# Altium schematic symbol library MMT_MCUs_ICs.SchLib: 70 symbols
Pins are listed as number, name and electrical type; pins without a type are passive.

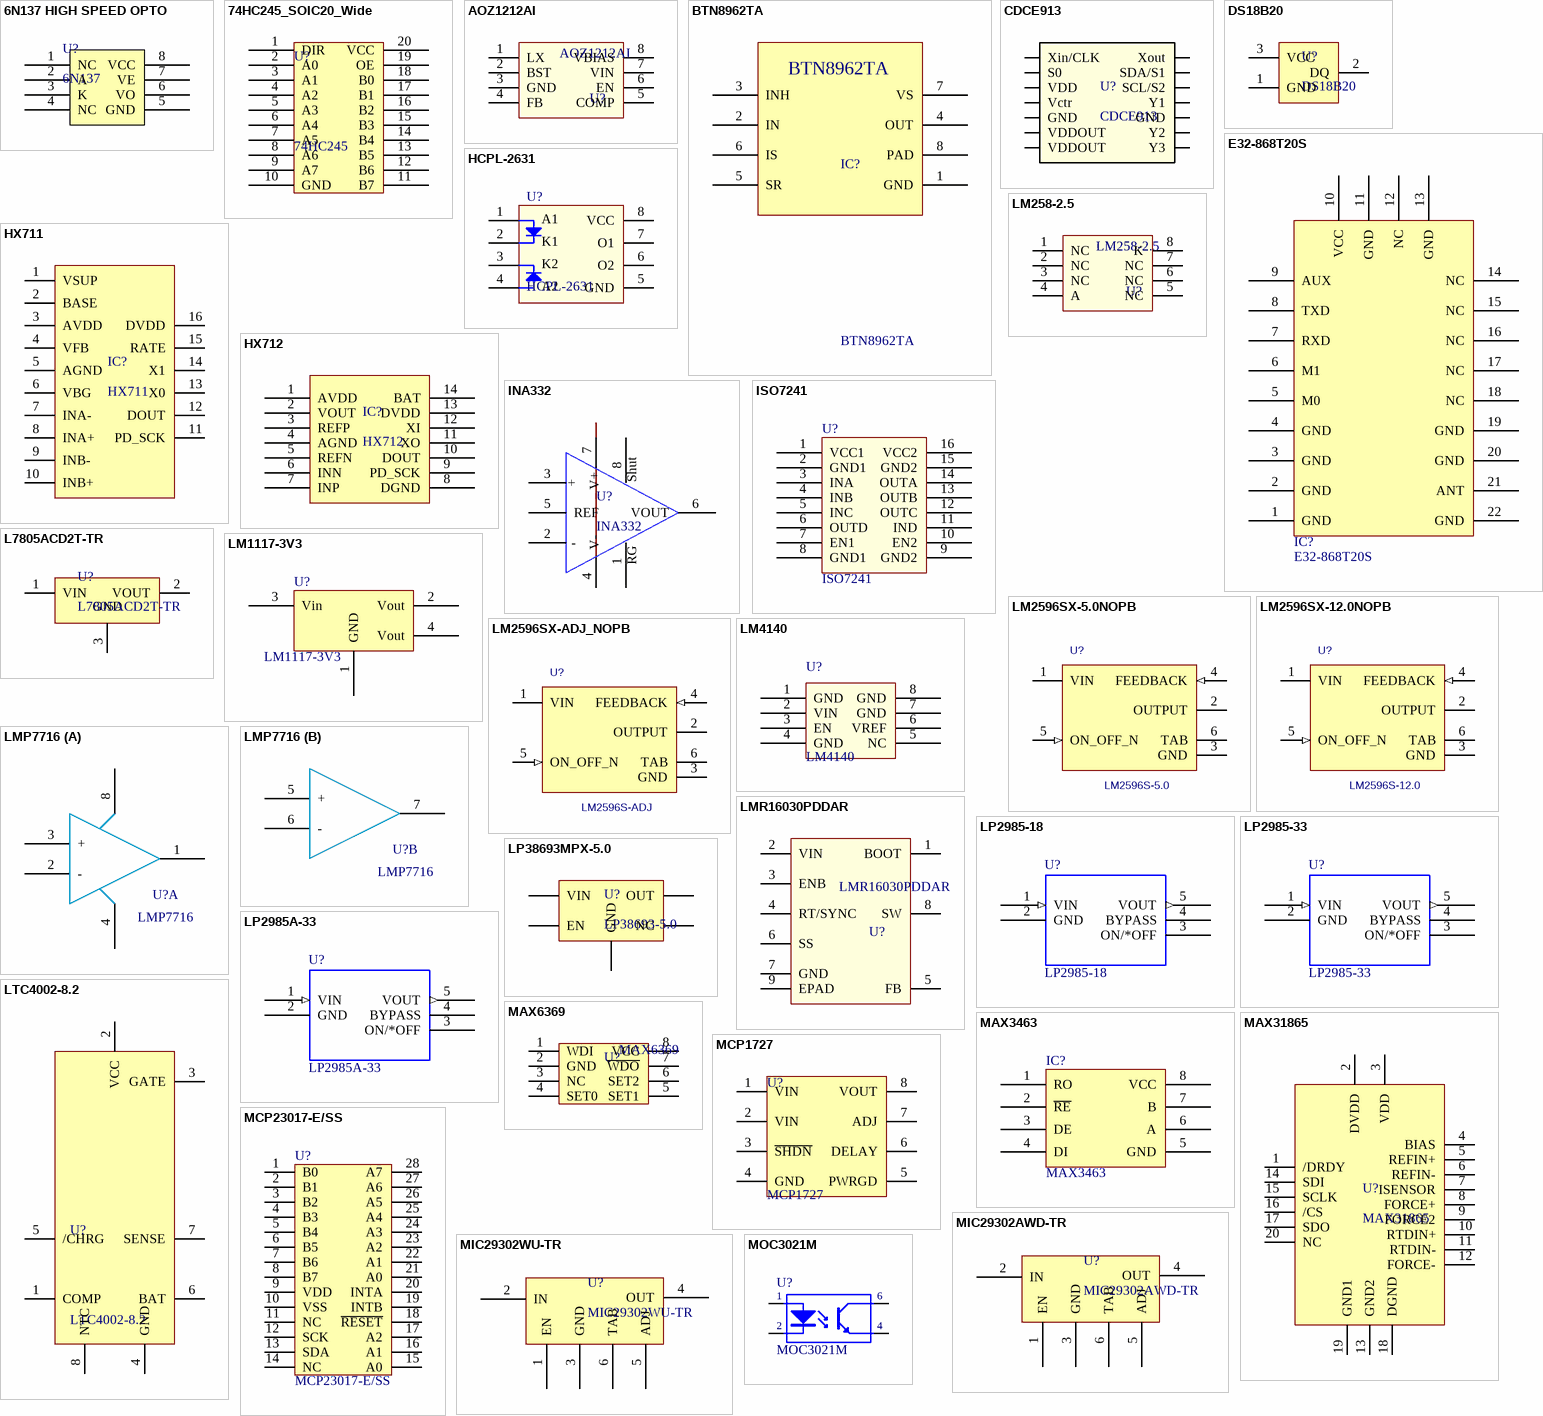
[diagram p0: symbols 6N137 HIGH SPEED OPTO to MOC3021M]

## 6N137 HIGH SPEED OPTO
designator U?, comment 6N137
Manufacturer: ON Semiconductor / Fairchild; Part Number: 6N137M; Ex Price: 0.95; VN Price: 13000; Ex Supplier: https://www.mouser.vn/ProductDetail/ON-Semiconductor-Fairchild/6N137M?qs=sGAEpiMZZMtd3yBnp8bAgA3T9QkA4GwUImSdzhoCmTs%3D; VN Supplier: https://thegioiic.com/products/6n137; Package: DIP-8
footprint DIP8/W0.3 (8 PIN, W 300mil, Pin to pin 100mil)
pins: 1 NC, 2 A, 3 K, 4 NC, 5 GND, 6 VO, 7 VE, 8 VCC

## 74HC245_SOIC20_Wide
designator U?, comment 74HC245
Octal bus transceiver; 3-state, Non-Inverting; Manufacturer: TI; Part Number: 74HC245D; Ex Price: 0.52; VN Price: 6000; Value: 74HC245 SOIC-20-wide; Voltage/Wattage: 5V; Ex Supplier: https://www.mouser.vn/ProductDetail/Texas-Instruments/SN74HC245NSR?qs=sGAEpiMZZMutXGli8Ay4kEK3ezPhJ2t9EnkYVGWCAYI%3D; VN Supplier: http://tme.vn/Product.aspx?id=1404#page=pro_info; Package: SOIC-20
footprint SO-20-wide (SOIC, 20-Leads, Body 12.8x7.5mm, Pitch 1.27mm, IPC Low Density)
pins: 1 DIR, 2 A0, 3 A1, 4 A2, 5 A3, 6 A4, 7 A5, 8 A6, 9 A7, 10 GND (power), 11 B7, 12 B6, 13 B5, 14 B4, 15 B3, 16 B2, 17 B1, 18 B0, 19 OE, 20 VCC (power)

## AOZ1212AI
designator U?
IC REG BUCK ADJUSTABLE 3A; Manufacturer: Alpha & Omega Semiconductor Inc.; Ex Price: 1.59; Ex Supplier: https://www.digikey.com/product-detail/en/alpha-omega-semiconductor-inc/AOZ1212AI/785-1159-1-ND/1856094; Part Number: AOZ1212AI; Package: SOIC-8
footprint SOIC-8
pins: 1 LX, 2 BST, 3 GND, 4 FB, 5 COMP, 6 EN, 7 VIN, 8 VBIAS

## BTN8962TA
designator IC?
Motor / Motion / Ignition Controllers & Drivers TRILITH IC / NOVALITH IC; Manufacturer: Infineon Technologies; Ex Price: 4.72; Ex Supplier: https://www.mouser.vn/ProductDetail/Infineon-Technologies/BTN8962TA?qs=sGAEpiMZZMtKB4wrjsn3leAuNy%252BI6F%252BmFnXInN1Divc%3D; Part Number: BTN8962TA; Package: TO-263-7; Value: BTN8962TA
footprint TO263-7-1
footprint TO263-7-1 - heatsink271
pins: 1 GND, 2 IN, 3 INH, 4 OUT, 5 SR, 6 IS, 7 VS, 8 PAD

## CDCE913
designator U?
Programmable 1-PLL VCXO Clock Synthesizer with 2.5-V or 3.3-V LVCMOS Outputs; Manufacturer: Texas Instruments; Part Number: CDCE913PWR; Voltage/Wattage: 1.8V; Ex Price: 3.73; Package: TSSOP-14; Ex Supplier: https://www.mouser.vn/ProductDetail/595-CDCE913PWR
footprint TSSOP14
pins: 1 Xin/CLK, 2 S0, 3 VDD, 4 Vctr, 5 GND, 6 VDDOUT, 7 VDDOUT, 8 Y3, 9 Y2, 10 GND, 11 Y1, 12 SCL/S2, 13 SDA/S1, 14 Xout

## DS18B20
designator U?
Board Mount Temperature Sensors Programmable Resolution 1-Wire Digital Thermometer; Manufacturer: Maxim Integrated; Part Number: DS18B20+; Ex Price: 3.92; VN Price: 23000; Voltage/Wattage: 3-5.5V; Package: TO-92-3; Ex Supplier: https://www.mouser.vn/ProductDetail/Maxim-Integrated/DS18B20%2b?qs=sGAEpiMZZMvbyeSUH4qH%2FLbikZ7SIep9; VN Supplier: https://www.thegioiic.com/products/ds18b20-cam-bien-nhiet-do-so
footprint TO-92
pins: 1 GND, 2 DQ, 3 VCC

## E32-868T20S
designator IC?
footprint E32-868T20S
pins: 1 GND, 2 GND, 3 GND, 4 GND, 5 M0, 6 M1, 7 RXD, 8 TXD, 9 AUX, 10 VCC, 11 GND, 12 NC, 13 GND, 14 NC, 15 NC, 16 NC, 17 NC, 18 NC, 19 GND, 20 GND, 21 ANT, 22 GND

## HCPL-2631
designator U?
High Speed Optocouplers 10MBd 2Ch 5mA; Manufacturer: Broadcom / Avago; Part Number: HCPL-2631-500E; Ex Price: 3.84; VN Price: 38000; Voltage/Wattage: 5V; Ex Supplier: https://www.mouser.vn/ProductDetail/Broadcom-Avago/HCPL-2631-500E?qs=sGAEpiMZZMtd3yBnp8bAgMhsn5Iee23BbWswC5E0b0U%3D; VN Supplier: http://tme.vn/Product.aspx?id=1471#page=pro_info; Package: PDIP-8 Gull Wing
footprint PDIP-8
pins: 1 A1, 2 K1, 3 K2, 4 A2, 5 GND, 6 O2, 7 O1, 8 VCC

## HX711
designator IC?
24-Bit Analog-to-Digital Converter (ADC) with Load-cell Power Supply  Switch and Battery Voltage Detection for Weigh Scales; Manufacturer: Avia Semicon; Voltage/Wattage: 2.6 - 5.5V; Ex Price: 0.6; Package: SOP-16; Ex Supplier: https://lcsc.com/product-detail/Analog-To-Digital-Converters-ADCs_HX711_C43656.html; Part Number: HX711; Value: HX711
footprint SOP16
pins: 1 VSUP, 2 BASE, 3 AVDD, 4 VFB, 5 AGND, 6 VBG, 7 INA-, 8 INA+, 9 INB-, 10 INB+, 11 PD_SCK, 12 DOUT, 13 X0, 14 X1, 15 RATE, 16 DVDD

## HX712
designator IC?
24-Bit Analog-to-Digital Converter (ADC) with Load-cell Power Supply  Switch and Battery Voltage Detection for Weigh Scales; Manufacturer: Avia; Voltage/Wattage: 2.6 - 5V; Ex Price: 0.21; Package: SOP-14L; Ex Supplier: https://www.alibaba.com/product-detail/Analog-To-Digital-Converters-ADCs-24_60839835507.html?spm=a2700.supplier-normal.35.7.16eb49feEBz5rt; Part Number: HX712; Value: HX712
footprint SOP-14L (SOIC, 14-Leads, Body 9.9x3.9mm, Pitch 1.27mm, IPC Medium Density)
pins: 1 AVDD, 2 VOUT, 3 REFP, 4 AGND, 5 REFN, 6 INN, 7 INP, 8 DGND, 9 PD_SCK, 10 DOUT, 11 XO, 12 XI, 13 DVDD, 14 BAT

## INA332
designator U?
Instrumentation Amplifiers Lo-Pwr Single Sply CMOS Low Cost; Manufacturer: Texas Instruments; Part Number: INA332AIDGKR; Ex Price: 1.56; Ex Supplier: https://www.mouser.vn/ProductDetail/Texas-Instruments/INA332AIDGKR?qs=sGAEpiMZZMsE1dKaA2ImUPh%2Fgv48%2Feoe2ddndcc%2F0S8%3D; Package: VSSOP-8
footprint VSSOP-8 (TSOP, 8-Leads, Body 3.00x3.00mm, Pitch 0.65mm, IPC Medium Density)
pins: 1 RG, 2 -, 3 +, 4 V-, 5 REF, 6 VOUT, 7 V+, 8 Shut

## ISO7241
designator U?
Digital Isolators Quad Ch 3/1 150Mbps Dig Iso; Manufacturer: Texas Instruments; Part Number: ISO7241MDWR; Ex Price: 5.89; Voltage/Wattage: 3.3 - 5V; Ex Supplier: https://www.mouser.vn/ProductDetail/595-ISO7241MDWR; Package: SOIC-16
footprint SOIC-16
pins: 1 VCC1, 2 GND1, 3 INA, 4 INB, 5 INC, 6 OUTD, 7 EN1, 8 GND1, 9 GND2, 10 EN2, 11 IND, 12 OUTC, 13 OUTB, 14 OUTA, 15 GND2, 16 VCC2

## L7805ACD2T-TR
designator U?
Linear Voltage Regulators 5.0V 1.0A Positive; Manufacturer: STMicroelectronics; Ex Price: 0.71; VN Price: 8000; Tolerance: 2%; Voltage/Wattage: 5V/1.5A; Ex Supplier: https://www.mouser.vn/ProductDetail/STMicroelectronics/L7805ACD2T-TR?qs=sGAEpiMZZMtUqDgmOWBjgMl0H2B5IAfAawidsDQ4OEE%3D; Package: D2PAK; Part Number: L7805ACD2T-TR; VN Supplier: https://thegioiic.com/products/l7805acd2t
footprint D2PAK
pins: 1 VIN, 2 VOUT, 3 GND

## LM258-2.5
designator U?
Voltage References 2.5V Micro Pwr; Manufacturer: Texas Instruments; Part Number: LM285DR-2-5; Ex Price: 0.6; Ex Supplier: https://www.mouser.vn/ProductDetail/Texas-Instruments/LM285DR-2-5?qs=sGAEpiMZZMuBck1X%252B7j9fILoURLouammCf3fcYYGxew=; Package: SOIC-8
footprint SOIC-8
pins: 1 NC, 2 NC, 3 NC, 4 A, 5 NC, 6 NC, 7 NC, 8 K

## LM1117-3V3
designator U?
IC REG LINEAR 3.3V 800MA SOT223; Manufacturer: Texas Instruments; Part Number: LM1117IMPX-3.3/NOPB; Ex Price: 1.1; VN Price: 11000; Tolerance: 1%; Voltage/Wattage: 3.3V/0.8A; Package: SOT-223-4; Ex Supplier: https://www.mouser.vn/ProductDetail/Texas-Instruments/LM1117IMPX-33-NOPB?qs=sGAEpiMZZMvu8NZDyZ4K0YxjC1jVOToG; VN Supplier: https://thegioiic.com/products/lm1117imp-3-3-nopb
footprint SOT223-4N
pins: 1 GND, 2 Vout, 3 Vin, 4 Vout

## LM2596SX-5.0NOPB
designator U?, comment LM2596S-5.0
Switching Voltage Regulators 150 KHZ 3A STEP-DOWN VLTG REG; Manufacturer: Texas Instruments; Part Number: LM2596SX-5.0/NOPB; Ex Price: 4.77; VN Price: 17000; Tolerance: 4%; Voltage/Wattage: 5V/3A; Package: TO-263-5; Ex Supplier: https://www.mouser.vn/ProductDetail/Texas-Instruments/LM2596SX-50-NOPB?qs=sGAEpiMZZMvu8NZDyZ4K0S81TZzfaUAZ; VN Supplier: http://www.tme.vn/Product.aspx?id=1435
footprint KTT0005B
pins: 1 VIN (power), 2 OUTPUT (power), 3 GND (power), 4 FEEDBACK (in), 5 ON_OFF_N (in), 6 TAB (power)

## LM2596SX-12.0NOPB
designator U?, comment LM2596S-12.0
Switching Voltage Regulators Pwr Cnvtr 150KHz 3A SD VTG Reg; Manufacturer: Texas Instruments; Part Number: LM2596SX-12/NOPB; Ex Price: 4.77; VN Price: 7000; Tolerance: 4%; Voltage/Wattage: 12V/3A; Package: TO-263-5; Ex Supplier: https://www.mouser.vn/ProductDetail/Texas-Instruments/LM2596SX-50-NOPB?qs=sGAEpiMZZMvu8NZDyZ4K0S81TZzfaUAZ; VN Supplier: https://thegioiic.com/products/lm2596s-12
footprint KTT0005B
pins: 1 VIN (power), 2 OUTPUT (power), 3 GND (power), 4 FEEDBACK (in), 5 ON_OFF_N (in), 6 TAB (power)

## LM2596SX-ADJ_NOPB
designator U?, comment LM2596S-ADJ
Switching Voltage Regulators 150 KHZ 3A STEP-DOWN VLTG REG; Manufacturer: Texas Instruments; Part Number: LM2596SX-ADJ/NOPB; Ex Price: 4.77; VN Price: 19000; Tolerance: 4%; Voltage/Wattage: 1.2 - 37V/3A; Package: TO-263-5; Ex Supplier: https://www.mouser.vn/ProductDetail/Texas-Instruments/LM2596SX-ADJ-NOPB?qs=sGAEpiMZZMtitjHzVIkrqaeIqJaO9bXJC5TTYIoeguU%3D; VN Supplier: https://thegioiic.com/products/lm2596sx-adj
footprint KTT0005B
pins: 1 VIN (power), 2 OUTPUT (power), 3 GND (power), 4 FEEDBACK (in), 5 ON_OFF_N (in), 6 TAB (power)

## LM4140
designator U?
LM4140 High Precision Low Noise Low Dropout Voltage Reference; Manufacturer: Texas Instruments; Part Number: LM4140ACM-1.0/NOPB; Ex Price: 4.73; Ex Supplier: https://www.mouser.vn/ProductDetail/926-LM4140ACM10NOPB; Package: SOIC-8
footprint SOIC-8
pins: 1 GND, 2 VIN, 3 EN, 4 GND, 5 NC, 6 VREF, 7 GND, 8 GND

## LMP7716
designator U?
Single and Dual Precision, 17 MHz, Low Noise, CMOS Input Amplifiers; Manufacturer: Texas Instruments; Part Number: LMP7716MM/NOPB; Ex Price: 2.48; Voltage/Wattage: 1.8-5.5V; Ex Supplier: https://www.mouser.vn/ProductDetail/926-LMP7716MM-NOPB; Package: VSSOP-8
footprint VSSOP-8 (TSOP, 8-Leads, Body 3.00x3.00mm, Pitch 0.65mm, IPC Medium Density)
part A pins: 1, 2 -, 3 +, 4, 8
part B pins: 5 +, 6 -, 7

## LMR16030PDDAR
designator U?
IC Switching Voltage Regulators; Manufacturer: Texas Instruments; Voltage/Wattage: 0.8-50V/3A; Ex Price: 3.51; Ex Supplier: https://www.mouser.vn/ProductDetail/Texas-Instruments/LMR16030PDDAR?qs=n%252BTO0c4TDSaKkVD0KJTfkA%3D%3D; Part Number: LMR16030PDDAR; Package: R-PDSO-G8
footprint R-PDSO-G8
pins: 1 BOOT, 2 VIN, 3 ENB, 4 RT/SYNC, 5 FB, 6 SS, 7 GND, 8 SW, 9 EPAD

## LP2985-18
designator U?
1.8V 0.15A Low-Noise LDO Regulator With Shutdown; Manufacturer: Texas Instruments; Part Number: LP2985-18DBVR; Voltage/Wattage: 16V/150mA; Tolerance: 1.5%; Ex Price: 0.56; Ex Supplier: https://www.mouser.vn/ProductDetail/Texas-Instruments/LP2985-18DBVR?qs=AsTZqt%2FmeqmqQIdfOTinGg==; Package: SOT-23-5
footprint SOT-23-5
pins: 1 VIN (in), 2 GND (power), 3 ON/*OFF, 4 BYPASS, 5 VOUT (out)

## LP2985-33
designator U?
3.3V 0.15A Low-Noise LDO Regulator With Shutdown; Manufacturer: Texas Instruments; Part Number: LP2985-33DBVR; VN Price: 6000; Value: Lp2985- 3.3V; Voltage/Wattage: 16V/150mA; Tolerance: 1.5%; Ex Price: 0.58; VN Supplier: http://www.tme.vn/Product.aspx?id=1633#page=pro_info; Ex Supplier: https://www.mouser.vn/ProductDetail/Texas-Instruments/LP2985-33DBVR?qs=sGAEpiMZZMsGz1a6aV8DcCOj5hh%2FNjhX4p6toGEueJ8%3D; Package: SOT-23-5
footprint SOT-23-5
pins: 1 VIN (in), 2 GND (power), 3 ON/*OFF, 4 BYPASS, 5 VOUT (out)

## LP2985A-33
designator U?
LDO Voltage Regulators 150-mA 1% Tolerance Low-Noise LDO; Manufacturer: Texas Instruments; Part Number: LP2985A-33DBVR; Value: Lp2985- 3.3V; Voltage/Wattage: 16V/150mA; Ex Price: 0.61; Ex Supplier: https://www.mouser.vn/ProductDetail/595-LP2985A-33DBVR; Package: SOT-23-5; Tolerance: 1%
footprint SOT-23-5
pins: 1 VIN (in), 2 GND (power), 3 ON/*OFF, 4 BYPASS, 5 VOUT (out)

## LP38693MPX-5.0
designator U?, comment LP38693-5.0
LDO Voltage Regulators 500mA Low Dropout CMOS Linear Regulators; Manufacturer: Texas Instruments; Part Number: LP38693MPX-5.0/NOPB; Ex Price: 1.45; Tolerance: 4%; Voltage/Wattage: 5V - 0.5A; Package: SOT-223-5; Ex Supplier: https://www.mouser.vn/ProductDetail/Texas-Instruments/LP38693MPX-50-NOPB?qs=sGAEpiMZZMsGz1a6aV8DcBojudwDyMGa%252Bn8pYw94fPI%3D
footprint SOT-223-5
pins: 1 EN, 2 NC, 3 OUT, 4 VIN, 5 GND

## LTC4002-8.2
designator U?
Battery Management 2A, 2 Cell Switching Mode Battery; Manufacturer: Analog Devices / Linear Technology; Part Number: LTC4002ES8-8.4#PBF; Ex Price: 3.85; Voltage/Wattage: 8.9 - 22V; Ex Supplier: https://www.mouser.vn/ProductDetail/Analog-Devices-Linear-Technology/LTC4002ES8-84PBF?qs=sGAEpiMZZMvi6wO7nhr1L98cwPUmAHS2xX52EE9LnZU%3D; Package: SO-8; Value: LTC4002-8.2
footprint SO-8 (8-Pin Small Outline Integrated Circuit 1.27 mm Pitch, IPC Medium Density)
pins: 1 COMP, 2 VCC, 3 GATE, 4 GND, 5 /CHRG, 6 BAT, 7 SENSE, 8 NTC

## MAX3463
designator IC?
24-Bit Analog-to-Digital Converter (ADC) with Load-cell Power Supply  Switch and Battery Voltage Detection for Weigh Scales; Part Number: MAX3463CSA+; Manufacturer: Maxim; Voltage/Wattage: 5V; Ex Price: 4.31; Package: SOIC-8; Ex Supplier: https://www.mouser.vn/ProductDetail/Maxim-Integrated/MAX3463CSA+?qs=sGAEpiMZZMuXae9YOZoWd9EBnNihOkMO3edVp8Jk1cE=; Value: MAX3463
footprint SOIC-8
pins: 1 RO, 2 ~{RE}, 3 DE, 4 DI, 5 GND, 6 A, 7 B, 8 VCC

## MAX6369
designator U?
Supervisory Circuits Pin - Selectable Watchdog Timers; Manufacturer: Maxim Integrated; Part Number: MAX6369KA+T; Ex Price: 3.24; Package: SOT-23-8; Ex Supplier: https://www.mouser.vn/ProductDetail/Maxim-Integrated/MAX6369KA%2bT?qs=sGAEpiMZZMunEhqKs81nFFSrWToUXdqMhTrIHig1CPI%3D
footprint SOT-23-8
pins: 1 WDI, 2 GND, 3 NC, 4 SET0, 5 SET1, 6 SET2, 7 ~{WDO}, 8 VCC

## MAX31865
designator U?
Data Acquisition ADCs/DACs - Specialized RTD to Digital Converter in SSOP; Manufacturer: Maxim Integrated; Part Number: MAX31865AAP+; Ex Price: 3.81; Voltage/Wattage: 3.3V; Package: SSOP-20; Ex Supplier: https://www.mouser.vn/ProductDetail/700-MAX31865AAP%2b
footprint SSOP-20
pins: 1 /DRDY, 2 DVDD, 3 VDD, 4 BIAS, 5 REFIN+, 6 REFIN-, 7 ISENSOR, 8 FORCE+, 9 FORCE2, 10 RTDIN+, 11 RTDIN-, 12 FORCE-, 13 GND2, 14 SDI, 15 SCLK, 16 /CS, 17 SDO, 18 DGND, 19 GND1, 20 NC

## MCP1727
designator U?
24-Bit Analog-to-Digital Converter (ADC) with Load-cell Power Supply  Switch and Battery V1.5A, Low Voltage, Low Quiescent Current LDO Regulatoroltage Detection for Weigh Scales; Part Number: MCP1727T-3302E/SN; Manufacturer: Microchip Technology; VN Price: 25000; Ex Price: 0.82; Package: SOIC-8; Ex Supplier: https://www.mouser.vn/ProductDetail/Microchip-Technology/MCP1727T-3302E-SN?qs=sGAEpiMZZMsGz1a6aV8DcM7PvAViIEQBgFEUKMZUcPI%3D; VN Supplier: http://www.tme.vn/Product.aspx?id=1254#page=pro_info
footprint SOIC-8
pins: 1 VIN, 2 VIN, 3 ~{SHDN}, 4 GND, 5 PWRGD, 6 DELAY, 7 ADJ, 8 VOUT

## MCP23017-E/SS
designator U?
IC I/O EXPANDER I2C 16B 28SSOP; Manufacturer: Microchip Technology; Ex Price: 1.26; VN Price: 25000; Part Number: MCP23017-E/SS; Ex Supplier: https://www.mouser.vn/ProductDetail/Microchip-Technology/MCP23017-E-SS?qs=sGAEpiMZZMuFG5L82Zqpsv%2Foit1hbM7Tp07FKqvBeEk%3D; VN Supplier: https://thegioiic.com/products/mcp23017-e-ss
footprint SSOP28
pins: 1 B0, 2 B1, 3 B2, 4 B3, 5 B4, 6 B5, 7 B6, 8 B7, 9 VDD, 10 VSS, 11 NC, 12 SCK, 13 SDA, 14 NC, 15 A0, 16 A1, 17 A2, 18 ~{RESET}, 19 INTB, 20 INTA, 21 A0, 22 A1, 23 A2, 24 A3, 25 A4, 26 A5, 27 A6, 28 A7

## MIC29302AWD-TR
designator U?
LDO Voltage Regulators 3A Fast-Response LDO; Manufacturer: Microchip Technology / Micrel; Ex Price: 0.44; VN Price: 10800; Tolerance: 1%; Voltage/Wattage: 16V/3A; Part Number: MIC29302AWD-TR; Package: TO-252-5; Ex Supplier: https://www.mouser.vn/ProductDetail/Microchip-Technology-Micrel/MIC29302AWD-TR?qs=sGAEpiMZZMsGz1a6aV8DcNranXV84HML4NclDShNBjc%3D; VN Supplier: https://thegioiic.com/products/mic29302; Value: MIC29302AWD-TR
footprint TO252-5
pins: 1 EN, 2 IN, 3 GND, 4 OUT, 5 ADJ, 6 TAB

## MIC29302WU-TR
designator U?
Adjustable 26V 1.25V 3A TO-263-5 Low Dropout Regulators(LDO) RoHS; Manufacturer: Microchip Tech; Ex Price: 1.1; VN Price: 9000; Tolerance: 1%; Voltage/Wattage: 26V/3A; Part Number: MIC29302WU-TR; Package: TO-263-5; Ex Supplier: https://lcsc.com/product-detail/Low-Dropout-Regulators-LDO_MICROCHIP_MIC29302WU_MIC29302WU_C11149.html; VN Supplier: https://banlinhkien.vn/goods-7989-mic29302-to263.html; Value: MIC29302WU-TR
footprint TO263-5
pins: 1 EN, 2 IN, 3 GND, 4 OUT, 5 ADJ, 6 TAB

## MOC3021M
designator U?
Triac & SCR Output Optocouplers DIP-6 NON-ZERO TRIAC; Manufacturer: ON Semiconductor / Fairchild; Ex Price: 0.55; VN Price: 8000; Value: MOC3021; Package: PDIP-6; Part Number: MOC3021M; Ex Supplier: https://www.mouser.vn/ProductDetail/ON-Semiconductor-Fairchild/MOC3021M?qs=%2Fha2pyFadujIJrssNVyvKCGkWqjPNgjydiRo0agRPOaZY4JAE1GCUQ%3D%3D; VN Supplier: http://tme.vn/Product.aspx?id=2126
footprint DIP6/W0.3 (6 PIN, W 300mil, Pin to pin 100mil)
pins: 1 A "Anode", 2 K "Cathode", 4 E "Emitter", 6 C "Collector"

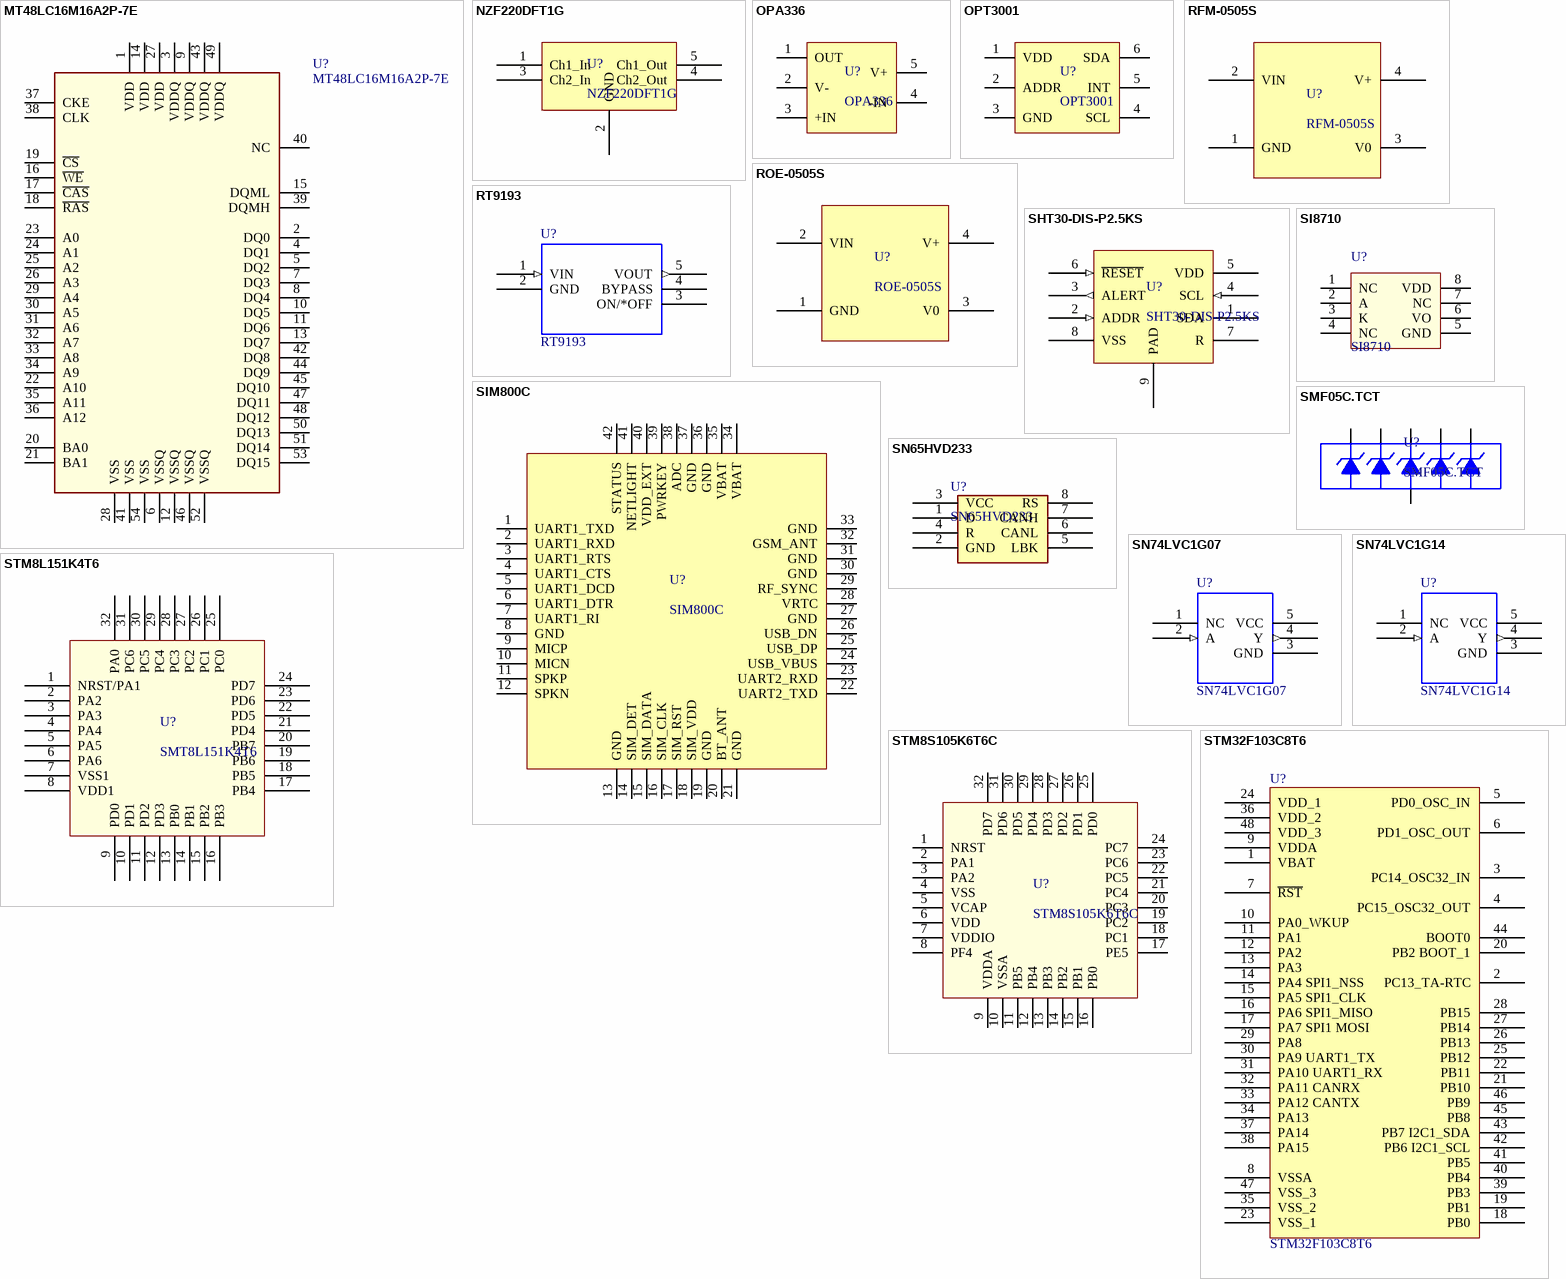
[diagram p1: symbols MT48LC16M16A2P-7E to STM32F103C8T6]

## MT48LC16M16A2P-7E
designator U?
DRAM SDRAM 256M 16MX16 TSOP; Manufacturer: Micron; Part Number: MT48LC16M16A2P-7E AIT:G; Ex Price: 5.82; Package: TSOP-54; Ex Supplier: https://www.mouser.vn/ProductDetail/Micron/MT48LC16M16A2P-7E-AITG?qs=%2Fha2pyFadujAEOrhigOAzTyfpLAHuure4t348yc5UzyDD9mdmyDLBQ%3D%3D
footprint TSOP2-54PIN
pins: 1 VDD, 2 DQ0, 3 VDDQ, 4 DQ1, 5 DQ2, 6 VSSQ, 7 DQ3, 8 DQ4, 9 VDDQ, 10 DQ5, 11 DQ6, 12 VSSQ, 13 DQ7, 14 VDD, 15 DQML, 16 ~{WE}, 17 ~{CAS}, 18 ~{RAS}, 19 ~{CS}, 20 BA0, 21 BA1, 22 A10, 23 A0, 24 A1, 25 A2, 26 A3, 27 VDD, 28 VSS, 29 A4, 30 A5, 31 A6, 32 A7, 33 A8, 34 A9, 35 A11, 36 A12, 37 CKE, 38 CLK, 39 DQMH, 40 NC, 41 VSS, 42 DQ8, 43 VDDQ, 44 DQ9, 45 DQ10, 46 VSSQ, 47 DQ11, 48 DQ12, 49 VDDQ, 50 DQ13, 51 DQ14, 52 VSSQ, 53 DQ15, 54 VSS

## NZF220DFT1G
designator U?
EMI Filter Circuits 2 Line EMI Filter w/6V TVS Array; Manufacturer: ON Semiconductor; Ex Price: 0.44; Part Number: NZF220DFT1G; Package: SC-70-5; Ex Supplier: https://www.mouser.vn/ProductDetail/ON-Semiconductor/NZF220DFT1G?qs=sGAEpiMZZMtZ6zFgbd3eE2axA1JDA2h2klmeMP6bOVc%3D
footprint SC-70-5
pins: 1 Ch1_In, 2 GND, 3 Ch2_In, 4 Ch2_Out, 5 Ch1_Out

## OPA336
designator U?
Operational Amplifiers - Op Amps Single-Supply MicroPower CMOS; Manufacturer: Texas Instruments; Part Number: OPA336NJ/3K; Ex Price: 1.16; Ex Supplier: https://www.mouser.vn/ProductDetail/Texas-Instruments/OPA336NJ-3K?qs=sGAEpiMZZMtCHixnSjNA6Mrdwin7F8A2cBnz1eXT%252BPs%3D; Package: SOT-23-5
footprint SOT-23-5
pins: 1 OUT, 2 V-, 3 +IN, 4 -IN, 5 V+

## OPT3001
designator U?
Ambient Light Sensors; Manufacturer: Texas Instruments; Ex Price: 2.84; Part Number: OPT3001; Package: USON-6; Ex Supplier: https://www.mouser.vn/ProductDetail/595-OPT3001DNPR
footprint USON-6
pins: 1 VDD, 2 ADDR, 3 GND, 4 SCL, 5 INT, 6 SDA

## RFM-0505S
designator U?
Isolated DC/DC Converters 1W 5Vin 5Vout 200mA SIP4; Manufacturer: RECOM Power; Ex Price: 1.41; Voltage/Wattage: 5V - 200mA; Ex Supplier: https://www.mouser.vn/ProductDetail/RECOM-Power/RFM-0505S?qs=sGAEpiMZZMvGsmoEFRKS8Koqt8Pjkl39rtB0vRPOsShk%252BEyJWdEM3A==; Part Number: RFM-0505S; Package: SIP-4
footprint SIP-4
pins: 1 GND, 2 VIN, 3 V0, 4 V+

## ROE-0505S
designator U?
Isolated DC/DC Converters 1W 5Vin 5VOUT DC/DC CONVERTER SIP4; Manufacturer: RECOM Power; Ex Price: 2.63; Voltage/Wattage: 5V - 200mA; Ex Supplier: https://www.mouser.vn/ProductDetail/919-ROE-0505S; Part Number: ROE-0505S; Package: SIP-4
footprint SIP-4
pins: 1 GND, 2 VIN, 3 V0, 4 V+

## RT9193
designator U?
Linear Voltage Regulator IC Positive Fixed 1 Output 300mA SOT-23-5   Documents & Media; Manufacturer: Richtek USA Inc.; Part Number: RT9193-33GB; Ex Price: 0.315; VN Price: 4800; Value: 3.3V; Voltage/Wattage: 3.3V/0.3A; Ex Supplier: https://www.digikey.com/product-detail/en/richtek-usa-inc/RT9193-33GB/1028-1014-1-ND/2470073; VN Supplier: http://www.tme.vn/Product.aspx?id=1963#page=pro_info; Package: SC-74A, SOT-753, SOT-23-5
footprint SOT-23-5
pins: 1 VIN (in), 2 GND (power), 3 ON/*OFF, 4 BYPASS, 5 VOUT (out)

## SHT30-DIS-P2.5KS
designator U?
Board Mount Humidity Sensors Sensor component; Manufacturer: Sensirion; Ex Price: 3.49; PartNumber: SHT30-DIS-P2.5KS; Package: DFN-8; Ex Supplier: https://www.mouser.vn/ProductDetail/403-SHT30-DIS-P2.5KS
footprint DFN-8
pins: 1 SDA, 2 ADDR (in), 3 ALERT (out), 4 SCL (in), 5 VDD (power), 6 ~{RESET} (in), 7 R (power), 8 VSS (power), 9 PAD (power)

## SI8710
designator U?
Digital Isolators 3.75 kV optocoupler replacement in SOIC8; Manufacturer: Silicon Labs; Part Number: SI8710CC-B-ISR; Ex Price: 1; Ex Supplier: https://www.mouser.vn/ProductDetail/Silicon-Labs/SI8710CC-B-ISR?qs=sGAEpiMZZMssyD0wnx%2FymM3bPDptwQTOhH5rWG0N6xNorhcHh2LpQg==; Package: SOIC-8
footprint SOIC-8
pins: 1 NC, 2 A, 3 K, 4 NC, 5 GND, 6 VO, 7 NC, 8 VDD

## SIM800C
designator U?
Manufacturer: SIMCOM; VN Price: 120000; Voltage/Wattage: 3.4V - 4.4V; Part Number: SIM800C; Ex Supplier: https://simcom.ee/modules/gsm-gprs/sim800c/; VN Supplier: https://banlinhkien.vn/goods-5640-sim800c.html
footprint SIM800C
pins: 1 UART1_TXD, 2 UART1_RXD, 3 UART1_RTS, 4 UART1_CTS, 5 UART1_DCD, 6 UART1_DTR, 7 UART1_RI, 8 GND, 9 MICP, 10 MICN, 11 SPKP, 12 SPKN, 13 GND, 14 SIM_DET, 15 SIM_DATA, 16 SIM_CLK, 17 SIM_RST, 18 SIM_VDD, 19 GND, 20 BT_ANT, 21 GND, 22 UART2_TXD, 23 UART2_RXD, 24 USB_VBUS, 25 USB_DP, 26 USB_DN, 27 GND, 28 VRTC, 29 RF_SYNC, 30 GND, 31 GND, 32 GSM_ANT, 33 GND, 34 VBAT, 35 VBAT, 36 GND, 37 GND, 38 ADC, 39 PWRKEY, 40 VDD_EXT, 41 NETLIGHT, 42 STATUS

## SMF05C.TCT
designator U?
ESD Suppressors / TVS Diodes TVS, 5V, 5 LINE, ESD 6LD SC70; Manufacturer: Semtech; Ex Price: 0.87; VN Price: 3500; Part Number: SMF05C.TCT; Package: SC70-6; Ex Supplier: https://www.mouser.vn/ProductDetail/Semtech/SMF05CTCT?qs=sGAEpiMZZMtzPgOfznR9QdOUYiBBbUbQJ%252BAITy56KgI%3D; VN Supplier: https://thegioiic.com/products/smf05c-tct; Value: SMF05C.TCT; Voltage/Wattage: 5V
footprint SC70-6
pins: 1, 2, 3, 4, 5, 6

## SN65HVD233
designator U?
CAN Interface IC Standby Mode Loop-back; Manufacturer: Texas Instruments; Part Number: SN65HVD233D; Ex Price: 2.3; VN Price: 24000; Voltage/Wattage: 3.3V; Ex Supplier: https://www.mouser.vn/ProductDetail/Texas-Instruments/SN65HVD233D?qs=sGAEpiMZZMsGqoCZrYwANjBlzIePRaFKku2kMh8u3j4%3D; VN Supplier: https://thegioiic.com/products/sn65hvd230d; Package: SO-8
footprint SO-8 (8-Pin Small Outline Integrated Circuit 1.27 mm Pitch, IPC Medium Density)
pins: 1 D, 2 GND, 3 VCC, 4 R, 5 LBK, 6 CANL, 7 CANH, 8 RS

## SN74LVC1G07
designator U?
Buffers & Line Drivers Single w/ OD; Manufacturer: Texas Instruments; Part Number: SN74LVC1G07DBVR; Ex Price: 0.33; Voltage/Wattage: 1.65 V to 5.5 V; Ex Supplier: https://www.mouser.vn/ProductDetail/Texas-Instruments/SN74LVC1G07DBVR?qs=sGAEpiMZZMutXGli8Ay4kPnblbaqcXhbcDOjuL%252BbNhQ%3D; Package: SOT-23-5
footprint SOT-23-5
pins: 1 NC, 2 A (in), 3 GND (power), 4 Y (out), 5 VCC (power)

## SN74LVC1G14
designator U?
Inverters SINGLE SCHMITT TRIGGER INVERTER; Manufacturer: Texas Instruments; Part Number: SN74LVC1G14DBVR; Ex Price: 0.137; Voltage/Wattage: 1.65 V to 5.5 V; Ex Supplier: https://www.mouser.vn/ProductDetail/595-SN74LVC1G14DBVR; Package: SOT-23-5
footprint SOT-23-5
pins: 1 NC, 2 A (in), 3 GND (power), 4 Y (out), 5 VCC (power)

## STM8L151K4T6
designator U?, comment SMT8L151K4T6
8-bit Microcontrollers - MCU Ultra-low-power 8-bit MCU with 16 Kbytes Flash, 16 MHz CPU, integrated EEPROM; Manufacturer: STMicroelectronics; Part Number: STM8L151K4T6; Ex Price: 1.50; VN Price: 28000; Voltage/Wattage: 1.8 V to 3.6 V; Ex Supplier: https://www.mouser.vn/ProductDetail/STMicroelectronics/STM8L151K4T6?qs=sGAEpiMZZMvqv2n3s2xjsXdVVQiTsZZeYZm5dhhKjow%3D; VN Supplier: http://tme.vn/Product.aspx?id=1926; Package: LQFP-32
footprint LQFP-32 (LQFP32; Body size 7x7mm; Height 1.6mm; Pitch 0.8mm.)
pins: 1 NRST/PA1, 2 PA2, 3 PA3, 4 PA4, 5 PA5, 6 PA6, 7 VSS1, 8 VDD1, 9 PD0, 10 PD1, 11 PD2, 12 PD3, 13 PB0, 14 PB1, 15 PB2, 16 PB3, 17 PB4, 18 PB5, 19 PB6, 20 PB7, 21 PD4, 22 PD5, 23 PD6, 24 PD7, 25 PC0, 26 PC1, 27 PC2, 28 PC3, 29 PC4, 30 PC5, 31 PC6, 32 PA0

## STM8S105K6T6C
designator U?
8-bit Microcontrollers - MCU Access Line 16 MHz 8-bit MCU 32 Kbyt; Manufacturer: STMicroelectronics; Ex Price: 0.8803; Part Number: STM8S105K6T6C; Ex Supplier: https://lcsc.com/product-detail/ST-Microelectronics_STMicroelectronics_STM8S105K6T6C_STM8S105K6T6C_C8254.html; Package: LQFP-32
footprint LQFP-32 (LQFP32; Body size 7x7mm; Height 1.6mm; Pitch 0.8mm.)
pins: 1 NRST, 2 PA1, 3 PA2, 4 VSS, 5 VCAP, 6 VDD, 7 VDDIO, 8 PF4, 9 VDDA, 10 VSSA, 11 PB5, 12 PB4, 13 PB3, 14 PB2, 15 PB1, 16 PB0, 17 PE5, 18 PC1, 19 PC2, 20 PC3, 21 PC4, 22 PC5, 23 PC6, 24 PC7, 25 PD0, 26 PD1, 27 PD2, 28 PD3, 29 PD4, 30 PD5, 31 PD6, 32 PD7

## STM32F103C8T6
designator U?
STM32F103C8T6, MCU ARM, 64KB FLASH MEM, 48-LQFP; Manufacturer: STMicroelectronics; VN Price: 39000; Voltage/Wattage: 2-3.6V; Ex Price: 6.05; Value: STM32F103C8T6; Ex Supplier: https://www.mouser.vn/ProductDetail/STMicroelectronics/STM32F103C8T6?qs=sGAEpiMZZMuoKKEcg8mMKFb3BM%252BPMo%252BWO5nL6GJ6Dac%3D; VN Supplier: http://tme.vn/Product.aspx?id=1711#page=pro_info; Part Number: STM32F103C8T6; Package: LQFP-48
footprint LQFP-48 (Thin QFP, 48-Leads, Body 7x7mm, Pitch 0.5mm, IPC Medium Density)
pins: 1 VBAT, 2 PC13_TA-RTC, 3 PC14_OSC32_IN, 4 PC15_OSC32_OUT, 5 PD0_OSC_IN, 6 PD1_OSC_OUT, 7 ~{RST}, 8 VSSA, 9 VDDA, 10 PA0_WKUP, 11 PA1, 12 PA2, 13 PA3, 14 PA4 SPI1_NSS, 15 PA5 SPI1_CLK, 16 PA6 SPI1_MISO, 17 PA7 SPI1 MOSI, 18 PB0, 19 PB1, 20 PB2 BOOT_1, 21 PB10, 22 PB11, 23 VSS_1, 24 VDD_1, 25 PB12, 26 PB13, 27 PB14, 28 PB15, 29 PA8, 30 PA9 UART1_TX, 31 PA10 UART1_RX, 32 PA11 CANRX, 33 PA12 CANTX, 34 PA13, 35 VSS_2, 36 VDD_2, 37 PA14, 38 PA15, 39 PB3, 40 PB4, 41 PB5, 42 PB6 I2C1_SCL, 43 PB7 I2C1_SDA, 44 BOOT0, 45 PB8, 46 PB9, 47 VSS_3, 48 VDD_3

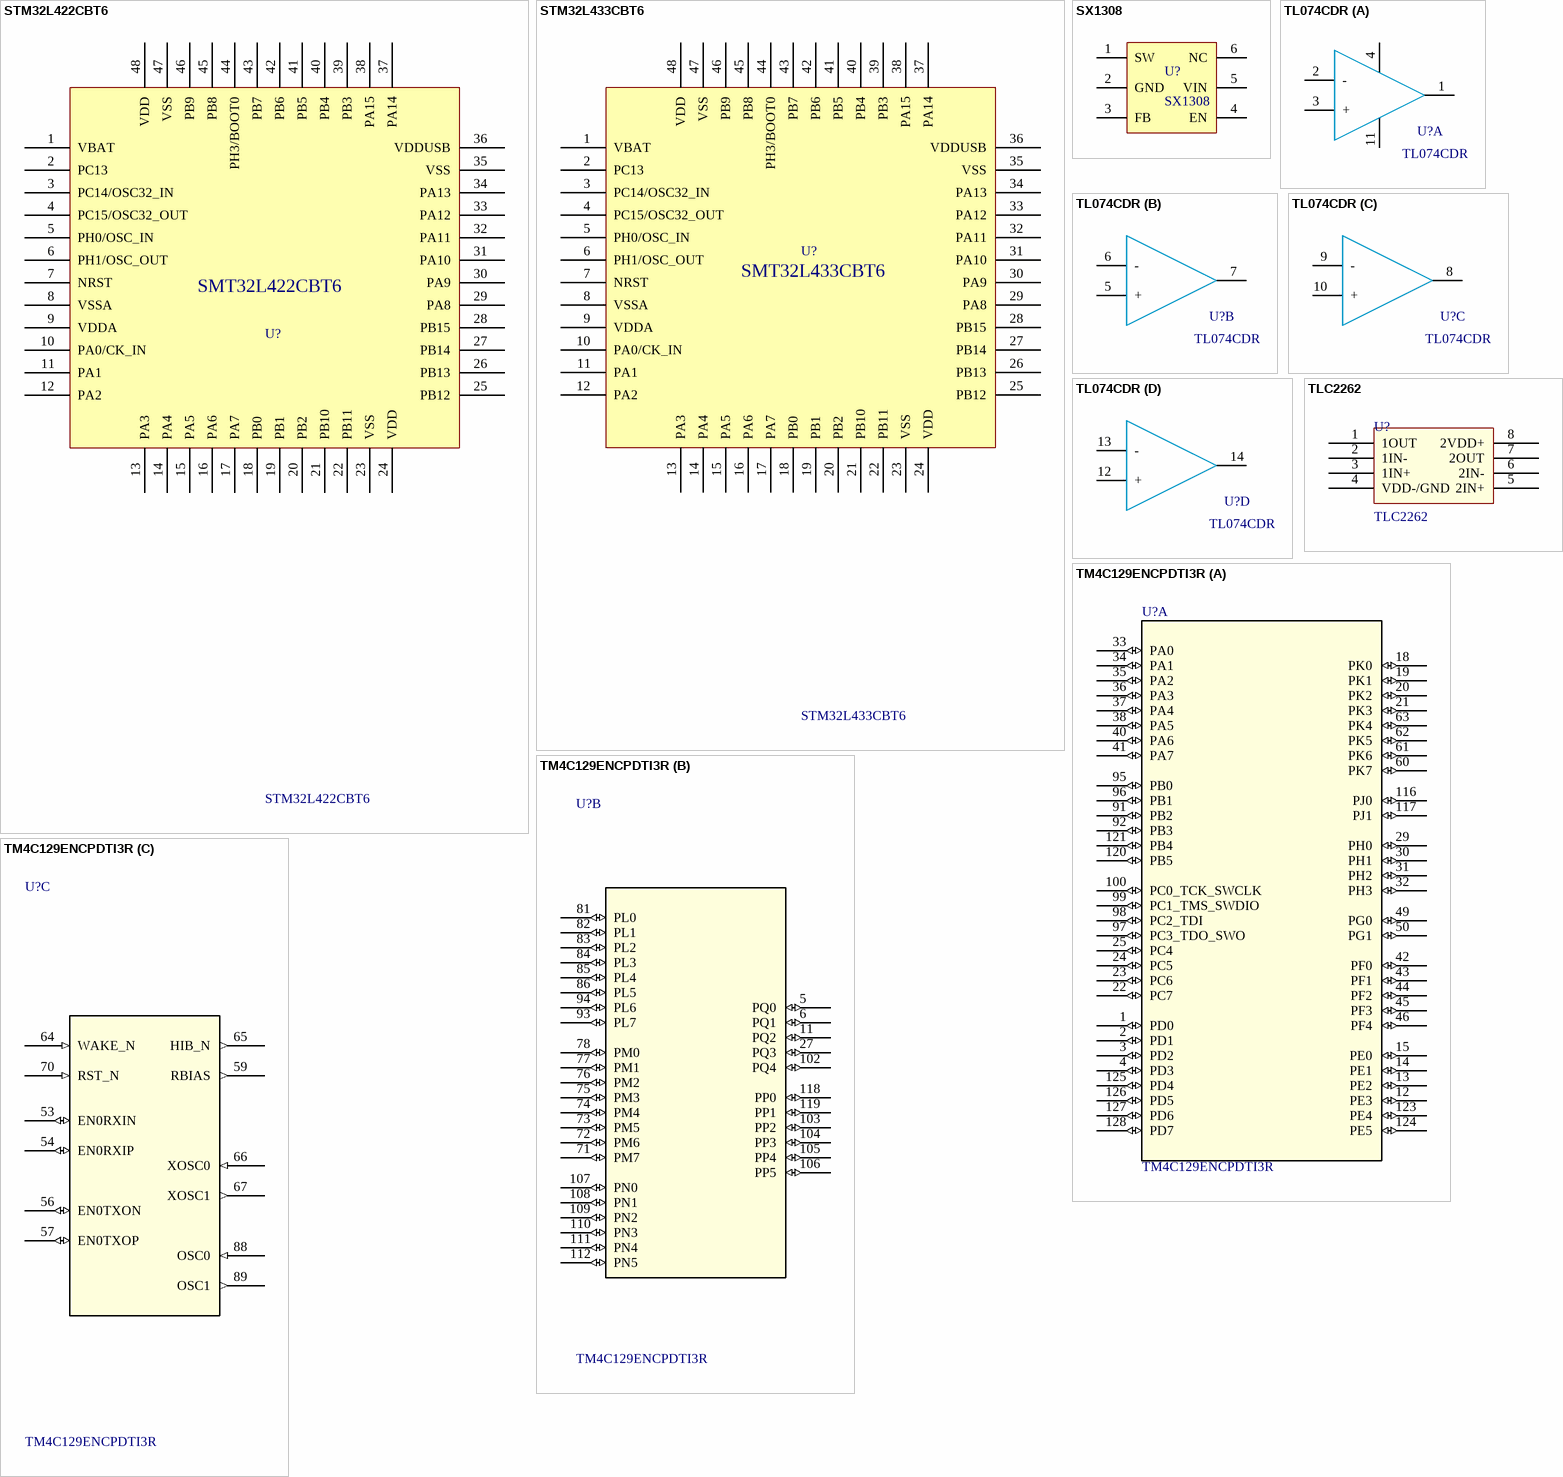
[diagram p2: symbols STM32L422CBT6 to TM4C129ENCPDTI3R]

## STM32L422CBT6
designator U?
STM32F103C8T6, MCU ARM, 64KB FLASH MEM, 48-LQFP; Manufacturer: STMicroelectronics; Voltage/Wattage: 1.71-3.6V; Ex Price: 4.77; Value: STM32L422CBT6; Ex Supplier: https://www.mouser.vn/ProductDetail/STMicroelectronics/STM32L422CBT6?qs=sGAEpiMZZMuoKKEcg8mMKJ29ob8kKavQwzsbwvgTF6RKABmhfcWtUw==; Part Number: STM32L422CBT6; Package: LQFP-48
footprint LQFP-48 (Thin QFP, 48-Leads, Body 7x7mm, Pitch 0.5mm, IPC Medium Density)
pins: 1 VBAT, 2 PC13, 3 PC14/OSC32_IN, 4 PC15/OSC32_OUT, 5 PH0/OSC_IN, 6 PH1/OSC_OUT, 7 NRST, 8 VSSA, 9 VDDA, 10 PA0/CK_IN, 11 PA1, 12 PA2, 13 PA3, 14 PA4, 15 PA5, 16 PA6, 17 PA7, 18 PB0, 19 PB1, 20 PB2, 21 PB10, 22 PB11, 23 VSS, 24 VDD, 25 PB12, 26 PB13, 27 PB14, 28 PB15, 29 PA8, 30 PA9, 31 PA10, 32 PA11, 33 PA12, 34 PA13, 35 VSS, 36 VDDUSB, 37 PA14, 38 PA15, 39 PB3, 40 PB4, 41 PB5, 42 PB6, 43 PB7, 44 PH3/BOOT0, 45 PB8, 46 PB9, 47 VSS, 48 VDD
text: SMT32L422CBT6

## STM32L433CBT6
designator U?
ARM® Cortex®-M4 STM32L4 Microcontroller IC 32-Bit 80MHz 128KB (128K x 8) FLASH 48-LQFP (7x7); Manufacturer: STMicroelectronics; Voltage/Wattage: 1.71-3.6V; Ex Price: 5.06; Ex Supplier: https://www.mouser.com/ProductDetail/STMicroelectronics/STM32L433CBT6?qs=U58vgkJzipQF1fCq5A%2FbWA%3D%3D; Part Number: STM32L433CBT6; Package: LQFP-48
footprint LQFP-48 (Thin QFP, 48-Leads, Body 7x7mm, Pitch 0.5mm, IPC Medium Density)
pins: 1 VBAT, 2 PC13, 3 PC14/OSC32_IN, 4 PC15/OSC32_OUT, 5 PH0/OSC_IN, 6 PH1/OSC_OUT, 7 NRST, 8 VSSA, 9 VDDA, 10 PA0/CK_IN, 11 PA1, 12 PA2, 13 PA3, 14 PA4, 15 PA5, 16 PA6, 17 PA7, 18 PB0, 19 PB1, 20 PB2, 21 PB10, 22 PB11, 23 VSS, 24 VDD, 25 PB12, 26 PB13, 27 PB14, 28 PB15, 29 PA8, 30 PA9, 31 PA10, 32 PA11, 33 PA12, 34 PA13, 35 VSS, 36 VDDUSB, 37 PA14, 38 PA15, 39 PB3, 40 PB4, 41 PB5, 42 PB6, 43 PB7, 44 PH3/BOOT0, 45 PB8, 46 PB9, 47 VSS, 48 VDD
text: SMT32L433CBT6

## SX1308
designator U?
Step-Up Positive Adjustable 1 2A 1.2MHz SOT-23-6 DC-DC Converters; Manufacturer: SX; Ex Price: 0.15; VN Price: 7000; Part Number: SX1308; Package: SOT23-6; Ex Supplier: https://lcsc.com/product-detail/DC-DC-Converters_SX1308_C78162.html; VN Supplier: https://banlinhkien.com/sx1308-sot236-ic-boost-2a-b628-p6651248.html
footprint SOT-23-6
pins: 1 SW, 2 GND, 3 FB, 4 EN, 5 VIN, 6 NC

## TL074CDR
designator U?
Operational Amplifiers - Op Amps Quad Low Noise JFET; Manufacturer: Texas Instruments; Ex Price: 0.39; Voltage/Wattage: 7-36V; Ex Supplier: https://www.mouser.vn/ProductDetail/Texas-Instruments/TL074CDR?qs=sGAEpiMZZMtCHixnSjNA6NDQA1eMYwPy8CYCuPHuybs%3D; Part Number: TL074CDR; Package: VSSOP-8
footprint SOIC-14
part A pins: 1, 2 -, 3 +, 4, 11
part B pins: 5 +, 6 -, 7
part C pins: 8, 9 -, 10 +
part D pins: 12 +, 13 -, 14

## TLC2262
designator U?
Operational Amplifiers - Op Amps Dual R/R Op Amp; Manufacturer: Texas Instruments; Part Number: TLC2262CDR; Ex Price: 1.8; Ex Supplier: https://www.mouser.vn/ProductDetail/595-TLC2262CDR; Package: SOIC-8
footprint SOIC-8
pins: 1 1OUT, 2 1IN-, 3 1IN+, 4 VDD-/GND, 5 2IN+, 6 2IN-, 7 2OUT, 8 2VDD+

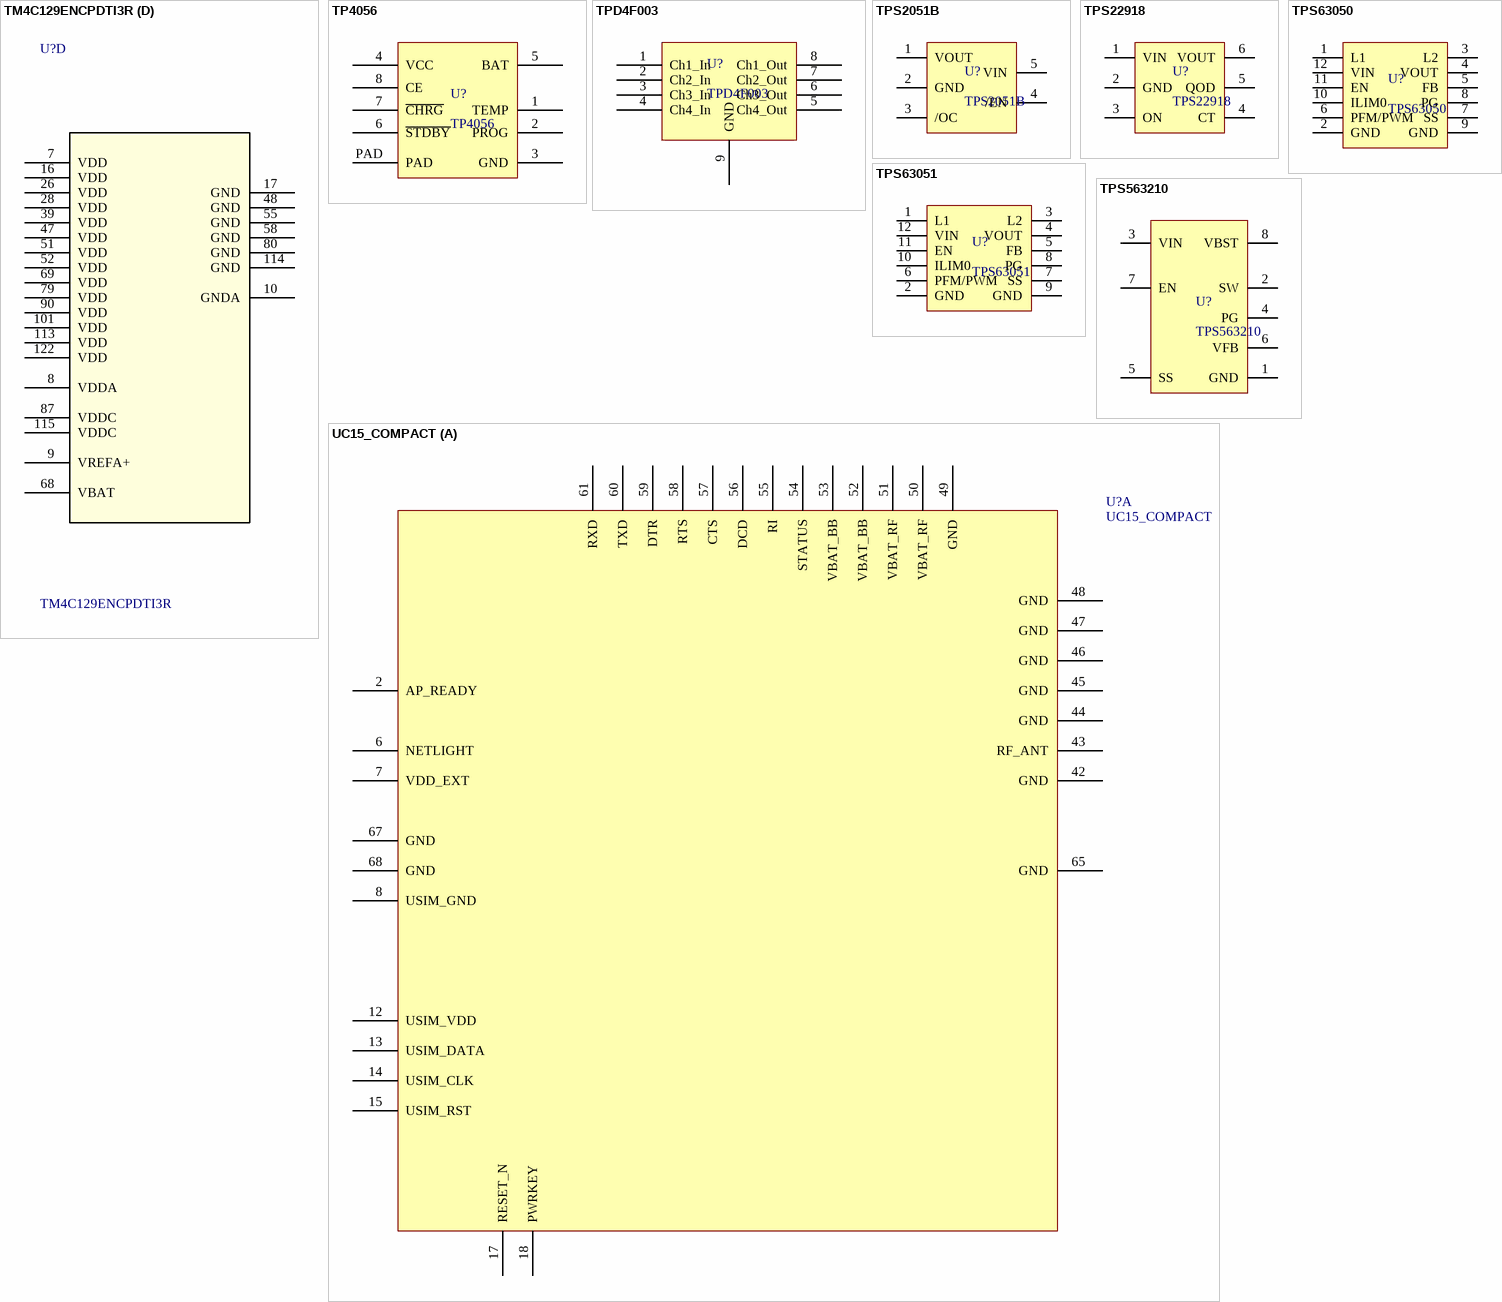
[diagram p3: symbols TM4C129ENCPDTI3R to UC15_COMPACT]

## TM4C129ENCPDTI3R
designator U?
ARM Microcontrollers - MCU Tiva C Series Microcontroller; Manufacturer: Texas Instruments; Ex Price: 12.43; Voltage/Wattage: 3.3V; Application_BuildNumber: *; Part Number: TM4C129ENCPDTI3R; Ex Supplier: https://www.mouser.vn/ProductDetail/595-TM4C129ENCPDTI3R; Package: TQFP-128
footprint PDT0128A_N
part A pins: 1 PD0 (io), 2 PD1 (io), 3 PD2 (io), 4 PD3 (io), 12 PE3 (io), 13 PE2 (io), 14 PE1 (io), 15 PE0 (io), 18 PK0 (io), 19 PK1 (io), 20 PK2 (io), 21 PK3 (io), 22 PC7 (io), 23 PC6 (io), 24 PC5 (io), 25 PC4 (io), 29 PH0 (io), 30 PH1 (io), 31 PH2 (io), 32 PH3 (io), 33 PA0 (io), 34 PA1 (io), 35 PA2 (io), 36 PA3 (io), 37 PA4 (io), 38 PA5 (io), 40 PA6 (io), 41 PA7 (io), 42 PF0 (io), 43 PF1 (io), 44 PF2 (io), 45 PF3 (io), 46 PF4 (io), 49 PG0 (io), 50 PG1 (io), 60 PK7 (io), 61 PK6 (io), 62 PK5 (io), 63 PK4 (io), 91 PB2 (io), 92 PB3 (io), 95 PB0 (io), 96 PB1 (io), 97 PC3_TDO_SWO (io), 98 PC2_TDI (io), 99 PC1_TMS_SWDIO (io), 100 PC0_TCK_SWCLK (io), 116 PJ0 (io), 117 PJ1 (io), 120 PB5 (io), 121 PB4 (io), 123 PE4 (io), 124 PE5 (io), 125 PD4 (io), 126 PD5 (io), 127 PD6 (io), 128 PD7 (io)
part B pins: 5 PQ0 (io), 6 PQ1 (io), 11 PQ2 (io), 27 PQ3 (io), 71 PM7 (io), 72 PM6 (io), 73 PM5 (io), 74 PM4 (io), 75 PM3 (io), 76 PM2 (io), 77 PM1 (io), 78 PM0 (io), 81 PL0 (io), 82 PL1 (io), 83 PL2 (io), 84 PL3 (io), 85 PL4 (io), 86 PL5 (io), 93 PL7 (io), 94 PL6 (io), 102 PQ4 (io), 103 PP2 (io), 104 PP3 (io), 105 PP4 (io), 106 PP5 (io), 107 PN0 (io), 108 PN1 (io), 109 PN2 (io), 110 PN3 (io), 111 PN4 (io), 112 PN5 (io), 118 PP0 (io), 119 PP1 (io)
part C pins: 53 EN0RXIN (io), 54 EN0RXIP (io), 56 EN0TXON (io), 57 EN0TXOP (io), 59 RBIAS (out), 64 WAKE_N (in), 65 HIB_N (out), 66 XOSC0 (in), 67 XOSC1 (out), 70 RST_N (in), 88 OSC0 (in), 89 OSC1 (out)
part D pins: 7 VDD (power), 8 VDDA (power), 9 VREFA+ (power), 10 GNDA (power), 16 VDD (power), 17 GND (power), 26 VDD (power), 28 VDD (power), 39 VDD (power), 47 VDD (power), 48 GND (power), 51 VDD (power), 52 VDD (power), 55 GND (power), 58 GND (power), 68 VBAT (power), 69 VDD (power), 79 VDD (power), 80 GND (power), 87 VDDC (power), 90 VDD (power), 101 VDD (power), 113 VDD (power), 114 GND (power), 115 VDDC (power), 122 VDD (power)

## TP4056
designator U?
4.2V 1A Li-lon Battery Charger with Thermal Regulation; Part Number: TPS63051RMWR; Ex Price: 0.1; VN Price: 4000; Voltage/Wattage: -0.3V~8V; Package: SOP-8; Ex Supplier: https://www.alibaba.com/product-detail/Discount-Brand-New-Electronic-Component-TP4056_60818424173.html?spm=a2700.7724838.2017115.98.334c65f6zu8BZD; VN Supplier: https://thegioiic.com/products/tp4056; Value: TP4056
footprint SOP8 (8-Pin Plastic Medium Body Small Outline Package 1.27 mm Pitch, IPC Low Density)
pins: 1 TEMP, 2 PROG, 3 GND, 4 VCC, 5 BAT, 6 ~{STDBY}, 7 ~{CHRG}, 8 CE, PAD

## TPD4F003
designator U?
EMI Filter Circuits 4-Channel EMI Filter; Manufacturer: Texas Instruments; Part Number: TPD4F003DQDR; Ex Price: 0.67; Package: WSON-8; Ex Supplier: https://www.mouser.vn/ProductDetail/595-TPD4F003DQDR
footprint DQD(R-PWSON-N8)
pins: 1 Ch1_In, 2 Ch2_In, 3 Ch3_In, 4 Ch4_In, 5 Ch4_Out, 6 Ch3_Out, 7 Ch2_Out, 8 Ch1_Out, 9 GND

## TPS2051B
designator U?
Power Switch ICs - Power Distribution Sngl Current Ltd Pwr Dstrbtn Sw; Manufacturer: Texas Instruments; Part Number: TPS2051BDBVR; Ex Price: 1.44; Package: SOT-23-5; Ex Supplier: https://www.mouser.vn/ProductDetail/Texas-Instruments/TPS2051BDBVR?qs=sGAEpiMZZMuCmTIBzycWfALpRiUku7ixYrEYiObKCjY%3D
footprint SOT-23-5
pins: 1 VOUT, 2 GND, 3 /OC, 4 /EN, 5 VIN

## TPS22918
designator U?
Power Switch ICs - Power Distribution 5.5V, 2A, 52mG load switch with adjustable rise time and adjustable quick output discharge 6-SOT-23 -40 to 105; Manufacturer: Texas Instruments; Part Number: TPS22918DBVR; Ex Price: 0.54; Package: SOT-23-6; Ex Supplier: https://www.mouser.vn/ProductDetail/Texas-Instruments/TPS22918DBVR?qs=sGAEpiMZZMuCmTIBzycWfAlZwtg6IsI%2FzwwMB6N5kEKYyPrFekk0jA%3D%3D
footprint SOT-23-6
pins: 1 VIN, 2 GND, 3 ON, 4 CT, 5 QOD, 6 VOUT

## TPS63050
designator U?
Tiny Single Inductor Buck Boost Converter; Manufacturer: Texas Instruments; Part Number: TPS63050RMWR; Ex Price: 1.81; Voltage/Wattage: 2.5-5.5V; Package: VQFN-HR-12; Ex Supplier: https://www.mouser.vn/ProductDetail/Texas-Instruments/TPS63050RMWR?qs=xufs61hA5MYPTFV8oH1c8Q==; Value: TPS63050
footprint VQFN-12
pins: 1 L1, 2 GND, 3 L2, 4 VOUT, 5 FB, 6 PFM/PWM, 7 SS, 8 PG, 9 GND, 10 ILIM0, 11 EN, 12 VIN

## TPS63051
designator U?
Tiny Single Inductor Buck Boost Converter; Manufacturer: Texas Instruments; Part Number: TPS63051RMWR; Ex Price: 1.81; Voltage/Wattage: 2.5-5.5V; Package: VQFN-HR-12; Ex Supplier: https://www.mouser.vn/ProductDetail/Texas-Instruments/TPS63051RMWR?qs=sGAEpiMZZMvw41ESBAosLEGxi%252B85WFAoQ56mamWdF%252B8%3D; Value: TPS63051
footprint VQFN-12
pins: 1 L1, 2 GND, 3 L2, 4 VOUT, 5 FB, 6 PFM/PWM, 7 SS, 8 PG, 9 GND, 10 ILIM0, 11 EN, 12 VIN

## TPS563210
designator U?
Switching Voltage Regulators A 595-TPS563210ADDFT; Manufacturer: Texas Instruments; Part Number: TPS563210ADDFR; Ex Price: 1.59; Voltage/Wattage: 4.5V - 17V; Package: SOT-23-8; Ex Supplier: https://www.mouser.vn/ProductDetail/Texas-Instruments/TPS563210ADDFR?qs=sGAEpiMZZMuYaq4aOfOV%252BCZ8o3te4l6fhKKdVMyEWcA%3D; Value: TPS563210
footprint SOT-23-8
pins: 1 GND, 2 SW, 3 VIN, 4 PG, 5 SS, 6 VFB, 7 EN, 8 VBST

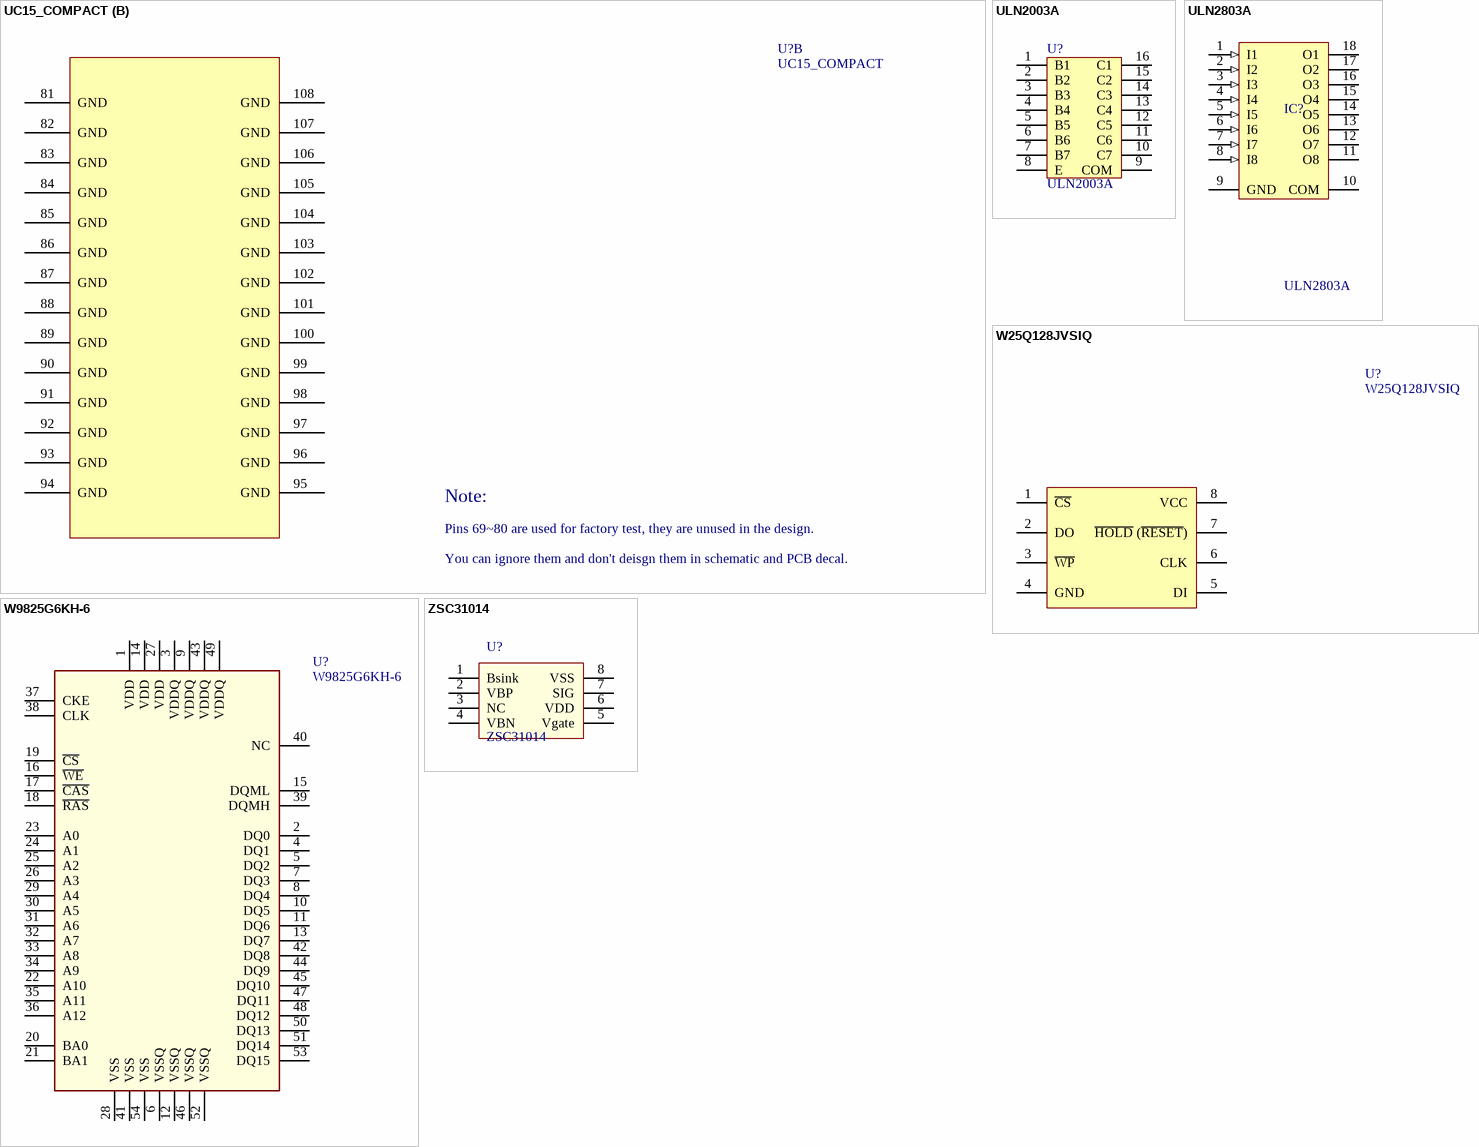
[diagram p4: symbols UC15_COMPACT to ZSC31014]

## UC15_COMPACT
designator U?
footprint UC15
part A pins: 2 AP_READY, 6 NETLIGHT, 7 VDD_EXT, 8 USIM_GND, 12 USIM_VDD, 13 USIM_DATA, 14 USIM_CLK, 15 USIM_RST, 17 RESET_N, 18 PWRKEY, 42 GND, 43 RF_ANT, 44 GND, 45 GND, 46 GND, 47 GND, 48 GND, 49 GND, 50 VBAT_RF, 51 VBAT_RF, 52 VBAT_BB, 53 VBAT_BB, 54 STATUS, 55 RI, 56 DCD, 57 CTS, 58 RTS, 59 DTR, 60 TXD, 61 RXD, 65 GND, 67 GND, 68 GND
part B pins: 69 RESERVED hidden to RESERVED, 70 RESERVED hidden to RESERVED, 71 RESERVED hidden to RESERVED, 72 RESERVED hidden to RESERVED, 73 RESERVED hidden to RESERVED, 74 RESERVED hidden to RESERVED, 75 RESERVED hidden to RESERVED, 76 RESERVED hidden to RESERVED, 77 RESERVED hidden to RESERVED, 78 RESERVED hidden to RESERVED, 79 RESERVED hidden to RESERVED, 80 RESERVED hidden to RESERVED, 81 GND, 82 GND, 83 GND, 84 GND, 85 GND, 86 GND, 87 GND, 88 GND, 89 GND, 90 GND, 91 GND, 92 GND, 93 GND, 94 GND, 95 GND, 96 GND, 97 GND, 98 GND, 99 GND, 100 GND, 101 GND, 102 GND, 103 GND, 104 GND, 105 GND, 106 GND, 107 GND, 108 GND
2 alternate drawings of the same symbol
part B text: Note:; Pins 69~80 are used for factory test, they are unused in the design.; You can ignore them and don't deisgn them in schematic and PCB decal.

## ULN2003A
designator U?
TRANS 7 NPN DARL 50V 500MA 16SO
footprint SOIC16
pins: 1 B1, 2 B2, 3 B3, 4 B4, 5 B5, 6 B6, 7 B7, 8 E, 9 COM, 10 C7, 11 C6, 12 C5, 13 C4, 14 C3, 15 C2, 16 C1

## ULN2803A
designator IC?
High-Voltage, High-Current Darlington Array; Manufacturer: Texas Instruments; Part Number: ULN2803ADWR; Ex Price: 1.41; VN Price: 9000; Ex Supplier: https://www.mouser.vn/ProductDetail/Texas-Instruments/ULN2803ADWR?qs=sGAEpiMZZMshyDBzk1%2FWi8kVt%2F4H20zz5tCTPfBaHns%3D; Package: SOIC-18; VN Supplier: http://tme.vn/Product.aspx?id=615
footprint SOIC-18L (SOIC, 18-Leads, Body 11.6x7.5mm, Pitch 1.27mm, IPC Low Density)
pins: 1 I1 (in), 2 I2 (in), 3 I3 (in), 4 I4 (in), 5 I5 (in), 6 I6 (in), 7 I7 (in), 8 I8 (in), 9 GND (power), 10 COM, 11 O8 (oc), 12 O7 (oc), 13 O6 (oc), 14 O5 (oc), 15 O4 (oc), 16 O3 (oc), 17 O2 (oc), 18 O1 (oc)

## W25Q128JVSIQ
designator U?
Non-Volatile FLASH 128Mb (16M x 8) SPI; Manufacturer: Winbond Elec; Ex Price: 1.03; Part Number: W25Q128JVSIQ; Package: SOIC-8; Ex Supplier: https://lcsc.com/product-detail/FLASH_Winbond-Elec-W25Q128JVSIQ_C113767.html
footprint SOIC-8-5.28mm
pins: 1 ~{CS}, 2 DO, 3 ~{WP}, 4 GND, 5 DI, 6 CLK, 7 ~{HOLD} (~{RESET}), 8 VCC

## W9825G6KH-6
designator U?
SDRAM Memory IC 256Mb (16M x 16) Parallel 166MHz 5ns 54-TSOP II; Manufacturer: Winbond Electronics; Ex Price: 2.24; Part Number: W9825G6KH-6; Package: TSOP-54; Ex Supplier: https://www.digikey.com/product-detail/en/winbond-electronics/W9825G6KH-6/W9825G6KH-6-ND/5001919
footprint TSOP2-54PIN
pins: 1 VDD, 2 DQ0, 3 VDDQ, 4 DQ1, 5 DQ2, 6 VSSQ, 7 DQ3, 8 DQ4, 9 VDDQ, 10 DQ5, 11 DQ6, 12 VSSQ, 13 DQ7, 14 VDD, 15 DQML, 16 ~{WE}, 17 ~{CAS}, 18 ~{RAS}, 19 ~{CS}, 20 BA0, 21 BA1, 22 A10, 23 A0, 24 A1, 25 A2, 26 A3, 27 VDD, 28 VSS, 29 A4, 30 A5, 31 A6, 32 A7, 33 A8, 34 A9, 35 A11, 36 A12, 37 CKE, 38 CLK, 39 DQMH, 40 NC, 41 VSS, 42 DQ8, 43 VDDQ, 44 DQ9, 45 DQ10, 46 VSSQ, 47 DQ11, 48 DQ12, 49 VDDQ, 50 DQ13, 51 DQ14, 52 VSSQ, 53 DQ15, 54 VSS

## ZSC31014
designator U?
Sensor Interface Sensor Signal Conditoner; Manufacturer: IDT; Part Number: ZSC31014EIG1-T; Ex Price: 3.89; Ex Supplier: https://www.mouser.vn/ProductDetail/IDT/ZSC31014EIG1-T?qs=sGAEpiMZZMsPA1KxyASVZLVkayb6V7lg; Package: Sop-8
footprint SOP-8
pins: 1 Bsink, 2 VBP, 3 NC, 4 VBN, 5 Vgate, 6 VDD, 7 SIG, 8 VSS